# Altium schematic symbol library Molex.SchLib: 4 symbols
Pins are listed as number, name and electrical type; pins without a type are passive.

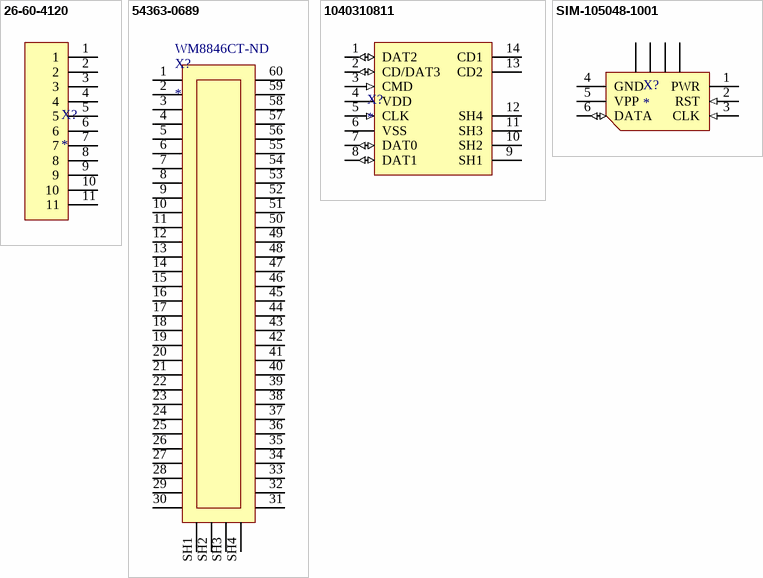
[diagram p0: symbols 26-60-4120 to SIM-105048-1001]

## 26-60-4120
designator X?
KK® 396 Header, Vertical, Friction Lock, 12 Circuits, Tin (Sn) Plating
footprint 26-60-4120 (KK® 396 Header, Vertical, Friction Lock, 12 Circuits, Tin (Sn) Plating)
pins: 1, 2, 3, 4, 5, 6, 7, 8, 9, 10, 11

## 54363-0689
designator X?  Supplier Part Number 1: WM8846CT-ND
0.50mm Pitch SlimStack™ Receptacle, Surface Mount, Dual Row, Vertical, 2.00 and 3.00mm Stacking Heights, with Solder Tabs, 60 Circuits, Lead-Free; Supplier 1: Digi-Key
footprint SD-54363-050 (0.50mm Pitch SlimStack™ Receptacle, Surface Mount, Dual Row, Vertical, 2.00 and 3.00mm Stacking Heights, with Solder Tabs, 60 Circuits, Lead-Free)
pins: 1, 2, 3, 4, 5, 6, 7, 8, 9, 10, 11, 12, 13, 14, 15, 16, 17, 18, 19, 20, 21, 22, 23, 24, 25, 26, 27, 28, 29, 30, 31, 32, 33, 34, 35, 36, 37, 38, 39, 40, 41, 42, 43, 44, 45, 46, 47, 48, 49, 50, 51, 52, 53, 54, 55, 56, 57, 58, 59, 60, SH1, SH2, SH3, SH4

## 1040310811
designator X?
CONN MICRO SD CARD PUSH-PULL R/A
footprint 1040310811
pins: 1 DAT2 (io), 2 CD/DAT3 (io), 3 CMD (in), 4 VDD (power), 5 CLK (in), 6 VSS (power), 7 DAT0 (io), 8 DAT1 (io), 9 SH1, 10 SH2, 11 SH3, 12 SH4, 13 CD2, 14 CD1

## SIM-105048-1001
designator X?
SIM Connector, 6 Pins with Guide Rail 1.45mm Height
footprint SD-105048-101 (SIM CARD HOLDER)
pins: 1 PWR (power), 2 RST (in), 3 CLK (in), 4 GND (power), 5 VPP, 6 DATA (io), S1, S2, S3, S4